# Altium footprint library 1_to_5_Pin.PcbLib: 194 footprints (part 8 of 13)
Each footprint in its own frame and in the unit in brackets; x right, y up, seen from the top. Pads: shape width x height; smd on the part's side, far side on the other; paste and mask are expansions set on the pad; w line width, h text height; cw(c..) or ccw(c..) is an arc to the next point about the centre after c.
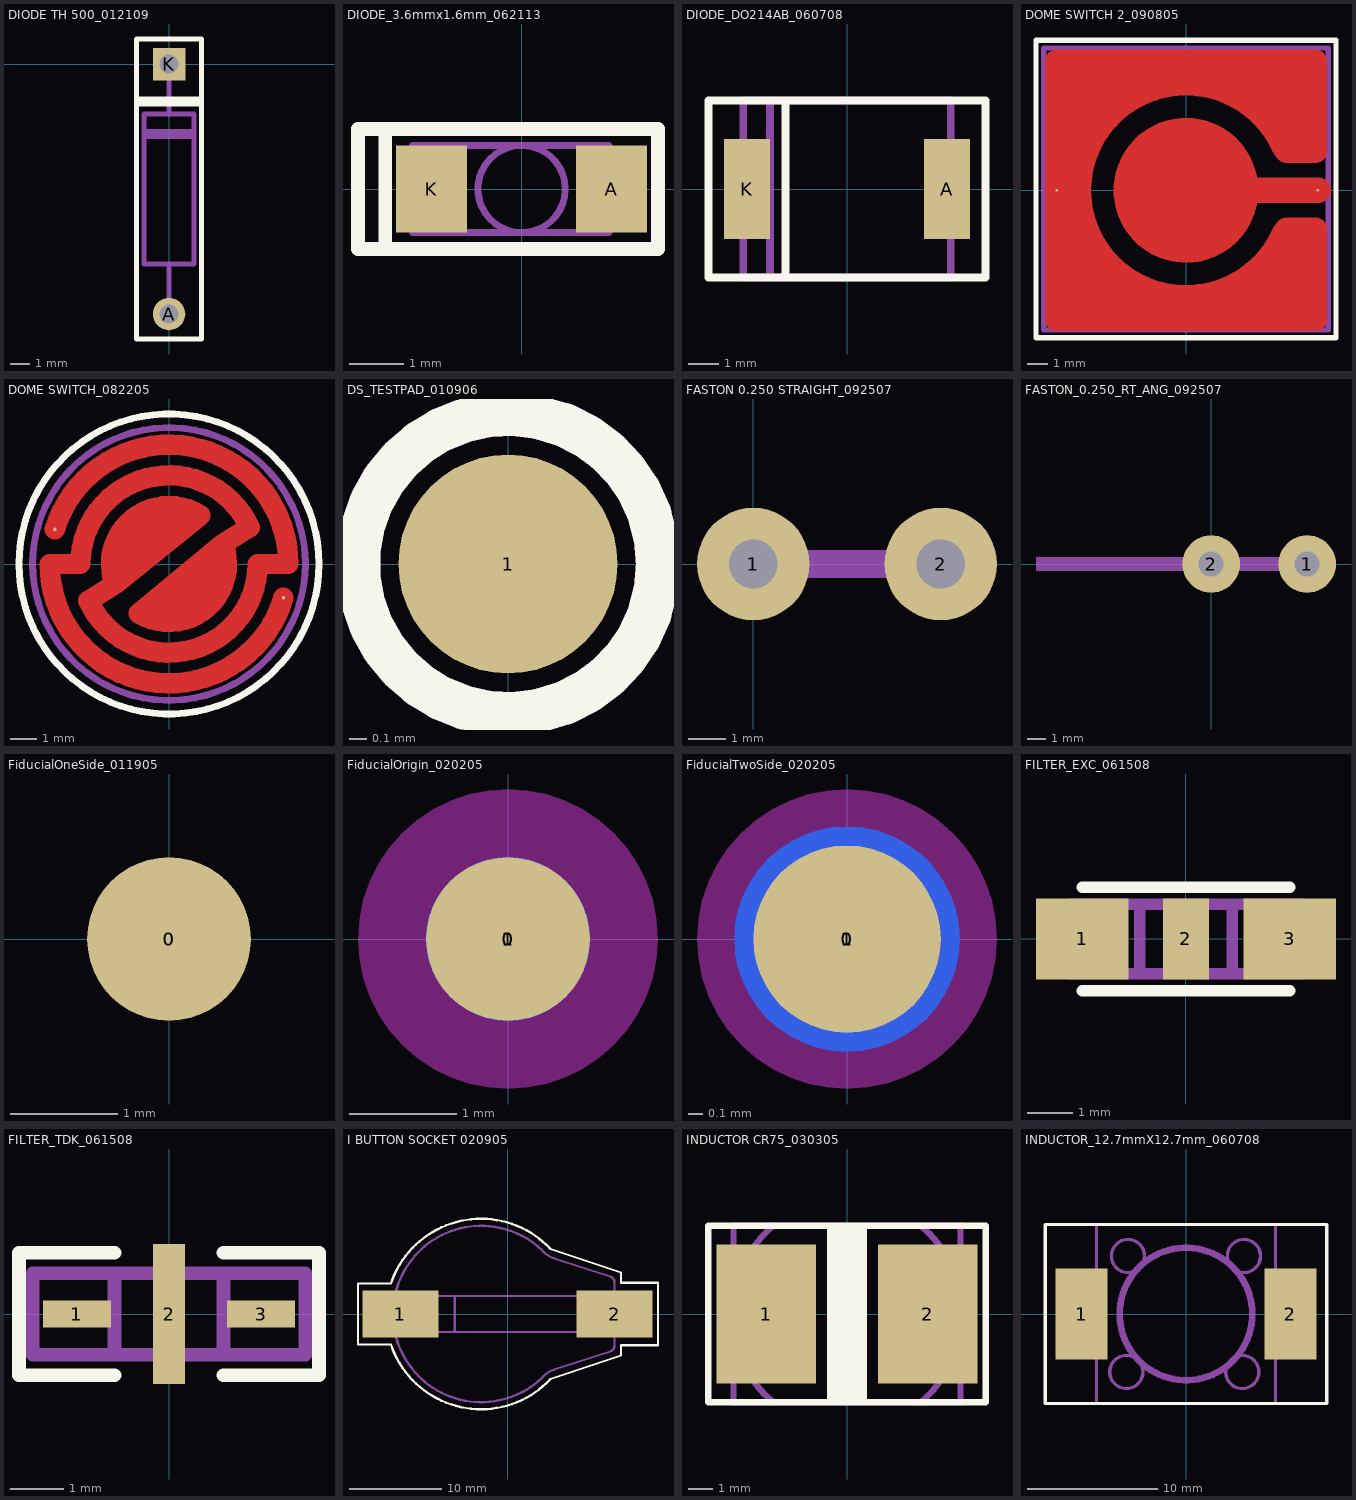
[diagram p7: the footprints below, top view; thin cyan lines are the x and y axes]

## DIODE TH 500_012109 [mil] "TH"
height 100
pads (2):
  round 65 hole 38: A(0,-500)
  rect 65x65 hole 38: K(0,0)
Top Overlay:
  rectangle: -65,-85 65,-65
  lines w10: -65,-550 65,-550 65,50 0,50 -65,50 -65,-550
Assembly Outline:
  rectangle: -50,-150 50,-130
  lines w10: 0,-500 0,-400 ; 0,-100 0,0 ; -50,-400 50,-400 50,-250 50,-100 -50,-100 -50,-400
Assembly Designator:
  text ".Designator" at -15,-219 h40
Assembly Comment:
  text ".Comment" at -108,-108 h40

## DIODE_3.6mmx1.6mm_062113 [mm] "SMT"
height 0.889
pads (2):
  rect 1.3x1.6 smd: A(1.65,0) K(-1.65,0)
Top Overlay:
  lines w0.25: -2.5,-1.1 -3,-1.1 -3,1.1 -2.5,1.1 ; -2.5,-1.1 2.5,-1.1 2.5,1.1 -2.5,1.1 ; -2.5,-1.1 -2.5,1.1
Assembly Outline:
  circle w0.127: c0,0 r0.8
  lines w0.127: 0,0.8 1.6,0.8 ; -1.6,-0.8 1.6,-0.8 1.6,0.8 ; -1.6,-0.8 -1.6,0.8 ; -1.6,-0.8 -2,-0.8 -2,0.8 -1.6,0.8 ; -1.6,0.8 1.6,0.8
Assembly Designator:
  text ".Designator" at -2.362,-0.258 h0.5

## DIODE_DO214AB_060708 [mil] "SMT"
height 110
pads (2):
  rect 60x130 smd: A(130,0) K(-130,0)
Top Overlay:
  lines w10: -80,-115 -80,115 ; -180,-115 180,-115 180,115 -180,115 -180,-115
Assembly Outline:
  lines w10: -135,-55 -155,-55 -155,55 -135,55 ; -100,-115 -100,115 ; 135,-55 155,-55 155,55 135,55 ; -135,-115 135,-115 135,115 -135,115 -135,-115
Assembly Designator:
  text ".Designator" at -45,-15 h40
Assembly Comment:
  text ".Comment" at -110,130 h40

## DOME SWITCH 2_090805 [mil] "SMT"
height 39.37
pads (2):
  round 5 smd: 1(-250,0) 2(255,0)
Top Layer:
  circle w100: c0,0 r90
  lines w45: 195,-75 250,-75 250,-250 0,-250 -250,-250 -250,0 -250,250 0,250 250,250 250,75 195,75
  lines w50: 0,0 255,0
  lines w75: -225,-200 -130,-200 ; -225,-170 -225,-95 ; -225,95 -225,170 ; -225,200 -130,200 ; -195,-160 -155,-160 ; 120,-210 225,-210 ; 120,210 225,210 ; 201.49,-90.14 cw(c0,0) -220.74,0 cw(c0,0) 201.49,90.14 ; 210,-210 210,-140 ; 210,140 210,210
  lines w125: -55,-55 50,60
Top Overlay:
  lines w10: -290,-285 290,-285 290,290 -290,290 -290,-285
Top Solder:
  circle w100: c0,0 r90
  lines w45: 195,-75 250,-75 250,-250 0,-250 -250,-250 -250,0 -250,250 0,250 250,250 250,75 195,75
  lines w50: 0,0 255,0
  lines w75: -225,-200 -130,-200 ; -225,-170 -225,-95 ; -225,95 -225,170 ; -225,200 -130,200 ; -195,-160 -155,-160 ; 120,-210 225,-210 ; 120,210 225,210 ; 201.49,-90.14 cw(c0,0) -220.74,0 cw(c0,0) 201.49,90.14 ; 210,-210 210,-140 ; 210,140 210,210
  lines w125: -55,-55 50,60
Assembly Outline:
  lines w10: -275,-270 275,-270 275,275 -275,275 -275,-270
Assembly Designator:
  text ".Designator" at -50,-15 h40
Assembly Comment:
  text ".Comment" at -155,-345 h40

## DOME SWITCH_082205 [mil] "SMT"
height 39.37
pads (2):
  round 5 smd: 1(-167.48,50.75) 2(167.89,-49.38)
Top Layer:
  lines w30: -167.48,50.75 cw(c0,0) 175,0 130,0 cw(c0,0) -118.18,-54.17 -79.59,-29.85 ; 167.89,-49.38 cw(c0,0) -175,0 -130,0 cw(c0,0) 118.18,54.17 79.59,29.85 ; -79.59,-29.85 cw(c0,0) 45.96,71.5 -79.59,-29.85 ; 79.59,29.85 cw(c0,0) -44.55,-72.39 79.59,29.85
  lines w60: -60,15 0,65 ; 5,-60 65,-10
Top Overlay:
  circle w10: c0,0 r220
Top Solder:
  lines w30: -167.48,50.75 cw(c0,0) 175,0 130,0 cw(c0,0) -118.18,-54.17 -79.59,-29.85 ; 167.89,-49.38 cw(c0,0) -175,0 -130,0 cw(c0,0) 118.18,54.17 79.59,29.85 ; -79.59,-29.85 cw(c0,0) 45.96,71.5 -79.59,-29.85 ; 79.59,29.85 cw(c0,0) -44.55,-72.39 79.59,29.85
  lines w60: -60,15 0,65 ; 5,-60 65,-10
Assembly Outline:
  circle w10: c0,0 r200
Assembly Designator:
  text ".Designator" at -40,-15 h40
Assembly Comment:
  text ".Comment" at -185,-270 h40

## DS_TESTPAD_010906 [mil] "SMT"
pads (1):
  round 50 smd mask+1: 1(0,0)
Top Overlay:
  circle w10: c0,0 r34.25
Assembly Outline:
  circle w10: c0,0 r34.25
Assembly Designator:
  text ".Designator" at -6.89,21.65 h25
Assembly Comment:
  text ".Comment" at -70,-85 h40

## FASTON 0.250 STRAIGHT_092507 [mil] "TH"
height 400
pads (2):
  round 120 hole 52: 1(0,0) 2(200,0)
Assembly Outline:
  rectangle: -55,-15 255,15
Assembly Designator:
  text ".Designator" at 45,70 h40
Assembly Comment:
  text ".Comment" at -50,-80 h40

## FASTON_0.250_RT_ANG_092507 [mil] "TH"
height 235
pads (2):
  round 120 hole 52: 1(200,0) 2(0,0)
Assembly Outline:
  rectangle: -365,-15 225,15
Assembly Designator:
  text ".Designator" at 35,75 h40
Assembly Comment:
  text ".Comment" at 37.5,-112.5 h40

## FiducialOneSide_011905 [mil] "FEATURE SMT PCB"
pads (2):
  round 60 smd: 0(0,0)
  round 110 on Top Solder: 0(0,0)

## FiducialOrigin_020205 [mil] "FEATURE SMT PCB"
pads (5):
  round 60 smd: 0(0,0)
  round 60 smd far side paste+0 mask+0: 0(0,0)
  round 110 on Top Solder: 0(0,0)
  round 110 on Keep-Out: 0(0,0)
  round 110 on Bottom Solder paste+0 mask+0: 1(0,0)

## FiducialTwoSide_020205 [mil] "FEATURE SMT PCB"
pads (5):
  round 50 smd: 0(0,0)
  round 60 smd far side paste+0 mask+0: 0(0,0)
  round 70 on Top Solder: 0(0,0)
  round 80 on Keep-Out: 0(0,0)
  round 80 on Bottom Solder paste+0 mask+0: 1(0,0)

## FILTER_EXC_061508 [mil] "SMT"
height 125
pads (3):
  rect 80x70 smd: 1(-90,0) 3(90,0)
  rect 40x70 smd: 2(0,0)
Top Overlay:
  lines w10: -90,-45 90,-45 ; -90,45 90,45
Assembly Outline:
  lines w10: -40,-30 -40,30 ; 40,-30 40,30 ; -100,-30 100,-30 100,30 -100,30 -100,-30
Assembly Designator:
  text ".Designator" at -35,-15 h40
Assembly Comment:
  text ".Comment" at -115,-85 h40

## FILTER_TDK_061508 [mil] "SMT"
height 90
pads (3):
  rect 50x20 smd: 1(-67.5,0) 3(67.5,0)
  rect 23.62x102.36 smd: 2(0,0)
Top Overlay:
  lines w10: -40,-45 -110,-45 -110,45 -40,45 ; 40,-45 110,-45 110,45 40,45
Assembly Outline:
  lines w10: -40,-30 -40,30 ; 40,-30 40,30 ; -100,-30 -100,30 100,30 100,-30 -100,-30
Assembly Designator:
  text ".Designator" at -35,-15 h40
Assembly Comment:
  text ".Comment" at -115,-85 h40

## I BUTTON SOCKET 020905 [mm] "SMT"
height 11.938
pads (2):
  rect 8.2x5.1 smd: 1(-11.6,0) 2(11.6,0)
Top Overlay:
  lines w0.254: -16.192,-0.008 -16.192,-3.308 -12.624,-3.308 ccw(c-2.87,-0.024) 4.659,-7.041 12.3,-4.5 12.3,-3.4 16.3,-3.4 16.3,0 16.3,3.4 12.3,3.4 12.3,4.5 4.659,7.041 ccw(c-2.87,0.024) -12.624,3.308 -16.192,3.308 -16.192,0.008
Assembly Outline:
  lines w0.254: -12.4,-0.8 -9.4,-0.8 ; -12.4,0.8 -9.4,0.8 ; -5.7,-1.95 -5.7,1.95 ; 12,-0.8 11.582,-0.8 ; 12,0.8 11.582,0.8 ; -14.9,-1.6 -12.4,-1.6 ; -14.9,-1.6 -14.9,1.6 ; -14.9,-1.6 -12.4,-1.6 ; -14.9,-1.6 -14.9,1.6 ; -14.9,1.6 -12.4,1.6 ; -14.9,1.6 -12.4,1.6 ; -12.4,-1.6 -12.4,0 ; -12.4,-1.6 -12.4,0 ; -12.4,0 ccw(c-2.85,0) 3.7,-6.95 cw(c6,-8.85) 5.057,-6.02 11.15,-4.05 ccw(c10.95,-3.45) 11.582,-3.45 11.582,-0.8 ; -12.4,0 cw(c-2.85,0) 3.7,6.95 ccw(c6,8.85) 5.057,6.02 11.15,4.05 cw(c10.95,3.45) 11.582,3.45 11.582,0.8 ; -12.4,0 -12.4,1.6 ; -12.4,0 -12.4,1.6 ; -9.4,-0.8 -9.4,0 ; -9.4,-0.8 -9.4,-1.95 9.3,-1.95 9.3,-0.8 ; -9.4,0 -9.4,0.8 ; -9.4,0 -9.4,1.95 ; -9.4,0.8 -9.4,1.95 ; -9.4,1.95 9.3,1.95 9.3,0.8 ; 9.3,-0.8 11.582,-0.8 ; 9.3,-0.8 9.3,0 9.3,0.8 ; 9.3,0.8 11.582,0.8 ; 12,-1.6 14.5,-1.6 ; 12,-1.6 12,1.6 ; 12,-1.6 14.5,-1.6 ; 12,-1.6 12,1.6 ; 12,1.6 14.5,1.6 ; 12,1.6 14.5,1.6 ; 14.5,-1.6 14.5,0 ; 14.5,-1.6 14.5,0 ; 14.5,0 14.5,1.6 ; 14.5,0 14.5,1.6

## INDUCTOR CR75_030305 [mm] "SMT"
height 5.08
pads (2):
  rect 4x5.588 smd: 1(-3.25,0) 2(3.25,0)
Top Overlay:
  rectangle: -0.8,-3.556 0.8,3.556
  lines w0.254: -5.588,-3.556 5.588,-3.556 5.588,3.556 -5.588,3.556 -5.588,-3.556
Assembly Outline:
  lines w0.254: -3.016,-3.519 cw(c0,0) -4.572,-0.762 ; -2.942,3.582 ccw(c0,0) -4.572,0.762 ; 2.942,-3.582 ccw(c0,0) 4.572,-0.762 ; 3.016,3.519 cw(c0,0) 4.572,0.762 ; -4.572,-0.762 ccw(c-4.572,0) -4.572,0.762 ; -4.572,-0.762 -4.572,-3.556 4.572,-3.556 4.572,-0.762 ; -4.572,0.762 -4.572,3.556 4.572,3.556 4.572,0.762 ; 4.572,-0.762 cw(c4.572,0) 4.572,0.762
Assembly Designator:
  text ".Designator" at -4.064,-0.508 h1.02
Assembly Comment:
  text ".Comment" at -4.572,-4.953 h1.02

## INDUCTOR_12.7mmX12.7mm_060708 [mm] "TH"
height 0.009
pads (2):
  rect 4x7 smd: 1(-8,0) 2(8,0)
Top Overlay:
  lines w0.254: -10.795,-6.858 10.795,-6.858 10.795,6.858 -10.795,6.858 -10.795,-6.858
Assembly Outline:
  circle w0.508: c0,0 r5.08
  circle w0.254: c4.445,4.445 r1.27
  circle w0.254: c-4.445,4.445 r1.27
  circle w0.254: c-4.572,-4.445 r1.27
  circle w0.254: c4.318,-4.445 r1.27
  lines w0.254: -6.858,-6.858 6.858,-6.858 6.858,6.858 -6.858,6.858 -6.858,-6.858
Assembly Designator:
  text ".Designator" at -2.032,-0.254 h1.02
Assembly Comment:
  text ".Comment" at -8.255,-8.382 h1.02